# EAGLE library part H1 (library medipix)
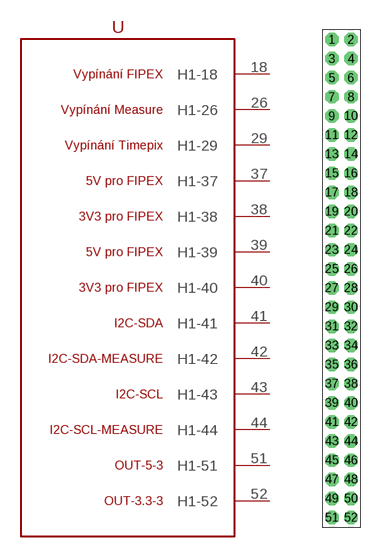
[diagram p2: symbol with the pads of H-KONEKTOR; footprint H-KONEKTOR]

Designator prefix -

## H1  [H-KONEKTOR]
18  H1-18
26  H1-26
29  H1-29
37  H1-37
38  H1-38
39  H1-39
40  H1-40
41  H1-41
42  H1-42
43  H1-43
44  H1-44
51  H1-51
52  H1-52

## Footprint H-KONEKTOR (pad centres in mm)
drill 1 pad 1.778 octagon: 1 0,0; 2 2.54,0; 3 0,-2.54; 4 2.54,-2.54; 5 0,-5.08; 6 2.54,-5.08; 7 0,-7.62; 8 2.54,-7.62; 9 0,-10.16; 10 2.54,-10.16; 11 0,-12.7; 12 2.54,-12.7; 13 0,-15.24; 14 2.54,-15.24; 15 0,-17.78; 16 2.54,-17.78; 17 0,-20.32; 18 2.54,-20.32; 19 0,-22.86; 20 2.54,-22.86; 21 0,-25.4; 22 2.54,-25.4; 23 0,-27.94; 24 2.54,-27.94; 25 0,-30.48; 26 2.54,-30.48; 27 0,-33.02; 28 2.54,-33.02; 29 0,-35.56; 30 2.54,-35.56; 31 0,-38.1; 32 2.54,-38.1; 33 0,-40.64; 34 2.54,-40.64; 35 0,-43.18; 36 2.54,-43.18; 37 0,-45.72; 38 2.54,-45.72; 39 0,-48.26; 40 2.54,-48.26; 41 0,-50.8; 42 2.54,-50.8; 43 0,-53.34; 44 2.54,-53.34; 45 0,-55.88; 46 2.54,-55.88; 47 0,-58.42; 48 2.54,-58.42; 49 0,-60.96; 50 2.54,-60.96; 51 0,-63.5; 52 2.54,-63.5